# Altium footprint library ABC.PcbLib: 20 footprints (part 1 of 2)
Each footprint in its own frame and in the unit in brackets; x right, y up, seen from the top. Pads: shape width x height; smd on the part's side, far side on the other; paste and mask are expansions set on the pad; w line width, h text height; cw(c..) or ccw(c..) is an arc to the next point about the centre after c.
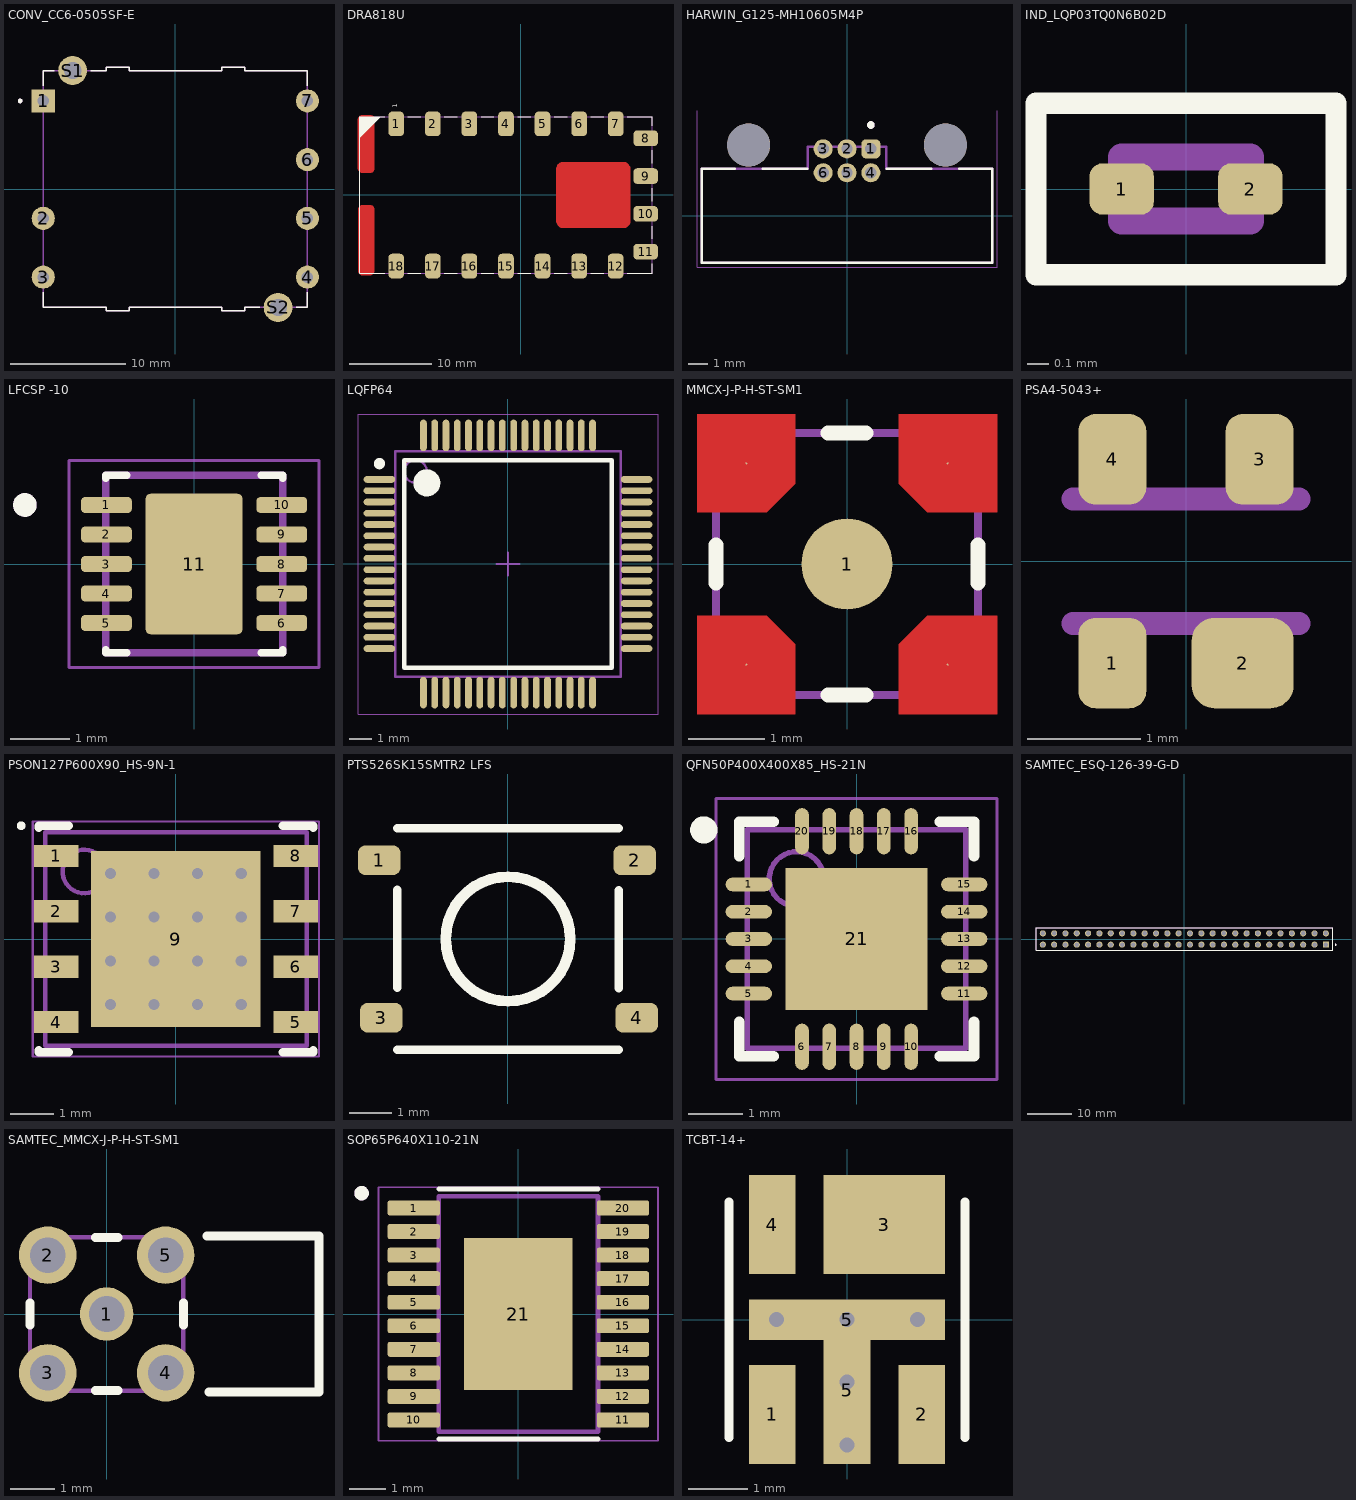
[diagram p0: the footprints below, top view; thin cyan lines are the x and y axes]

## CONV_CC6-0505SF-E [mm]
height 8.5
pads (9):
  rect 2x2 hole 1: 1(-11.43,7.62)
  round 2 hole 1: 2(-11.43,-2.54) 3(-11.43,-7.62) 4(11.43,-7.62) 5(11.43,-2.54) 6(11.43,2.54) 7(11.43,7.62)
  round 2.5 hole 1.5: S1(-8.89,10.25) S2(8.89,-10.25)
Top Overlay:
  circle w0.2: c-13.43,7.62 r0.1
  lines w0.127: -11.43,-8.94 -11.43,-10.25 -6,-10.25 -6,-10.55 -4,-10.55 -4,-10.25 4,-10.25 4,-10.55 6,-10.55 6,-10.25 7.32,-10.25 ; -11.43,8.94 -11.43,10.25 -10.46,10.25 ; -7.32,10.25 -6,10.25 -6,10.55 -4,10.55 -4,10.25 4,10.25 4,10.55 6,10.55 6,10.25 11.43,10.25 11.43,8.94 ; 10.46,-10.25 11.43,-10.25 11.43,-8.94
Top 3D Body:
  circle w0.2: c-13.43,7.62 r0.1
  lines w0.127: -11.43,-10.25 -11.43,10.25 -6,10.25 -6,10.55 -4,10.55 -4,10.25 4,10.25 4,10.55 6,10.55 6,10.25 11.43,10.25 11.43,-10.25 6,-10.25 6,-10.55 4,-10.55 4,-10.25 -4,-10.25 -4,-10.55 -6,-10.55 -6,-10.25 -11.43,-10.25
3D body "CC6-1205SF-E.STEP": height 8.7, standoff -3.3, extent -11.58,-10.55 11.58,10.55

## DRA818U [mm]
height 0.71
pads (18):
  rrect50% 1.9x3 smd: 1(-15.175,8.65) 2(-10.725,8.65) 3(-6.275,8.65) 4(-1.825,8.65) 5(2.625,8.65) 6(7.075,8.65) 7(11.525,8.65) 12(11.525,-8.65) 13(7.075,-8.65) 14(2.625,-8.65) 15(-1.825,-8.65) 16(-6.275,-8.65) 17(-10.725,-8.65) 18(-15.175,-8.65)
  rrect50% 3x1.9 smd: 8(15.175,6.9) 9(15.175,2.3) 10(15.175,-2.3) 11(15.175,-6.9)
Top Layer:
  pour cut-out: -19.367,9.698 -18.32,9.698 -18.221,9.698 -18.039,9.623 -17.9,9.484 -17.825,9.302 -17.825,9.204 -17.825,3.206 -17.825,3.105 -17.902,2.919 -18.044,2.777 -18.23,2.7 -18.331,2.7 -19.326,2.7 -19.425,2.7 -19.609,2.776 -19.749,2.916 -19.825,3.1 -19.825,3.199 -19.825,9.2 -19.825,9.3 -19.749,9.483 -19.608,9.624 -19.425,9.7 -19.325,9.7
  pour cut-out: -18.868,-1.25 -18.334,-1.25 -18.233,-1.25 -18.046,-1.327 -17.902,-1.471 -17.825,-1.658 -17.825,-1.759 -17.825,-9.248 -17.825,-9.348 -17.901,-9.533 -18.042,-9.674 -18.227,-9.75 -18.327,-9.75 -19.328,-9.75 -19.427,-9.75 -19.609,-9.674 -19.749,-9.534 -19.825,-9.352 -19.825,-9.253 -19.825,-1.748 -19.825,-1.649 -19.749,-1.466 -19.609,-1.326 -19.426,-1.25 -19.327,-1.25
  pour cut-out: 12.487,4 12.567,4 12.724,3.969 12.872,3.907 13.005,3.818 13.118,3.705 13.207,3.572 13.269,3.424 13.3,3.267 13.3,3.187 13.3,-3.197 13.3,-3.276 13.269,-3.431 13.209,-3.578 13.121,-3.709 13.009,-3.821 12.878,-3.909 12.731,-3.969 12.576,-4 12.497,-4 5.098,-4 5.02,-4 4.865,-3.969 4.72,-3.909 4.589,-3.822 4.478,-3.711 4.391,-3.58 4.331,-3.435 4.3,-3.28 4.3,-3.202 4.3,3.189 4.3,3.269 4.331,3.426 4.392,3.573 4.481,3.706 4.594,3.819 4.727,3.908 4.874,3.969 5.031,4 5.111,4
Top Overlay:
  region: -19.625,9.5 -19.625,7 -19.625,6.992 -19.619,6.977 -19.608,6.966 -19.593,6.96 -19.585,6.96 -17.045,9.5
  lines w0.15: -16.593,-9.5 -19.625,-9.5 -19.625,9.5 -16.593,9.5 ; -13.757,-9.5 -12.186,-9.5 ; -13.757,9.5 -12.186,9.5 ; -9.307,-9.5 -7.736,-9.5 ; -9.307,9.5 -7.736,9.5 ; -4.857,-9.5 -3.286,-9.5 ; -4.857,9.5 -3.286,9.5 ; -0.407,-9.5 1.164,-9.5 ; -0.407,9.5 1.164,9.5 ; 4.043,-9.5 5.614,-9.5 ; 4.043,9.5 5.614,9.5 ; 8.493,-9.5 10.064,-9.5 ; 8.493,9.5 10.064,9.5 ; 12.913,9.5 15.975,9.5 15.975,8.45 ; 12.943,-9.5 15.975,-9.5 15.975,-8.34 ; 15.975,-5.35 15.975,-3.779 ; 15.975,-0.75 15.975,0.821 ; 15.975,3.85 15.975,5.421
  text "1" at -14.825,10.6 h1
Top 3D Body:
  lines w0.15: -19.625,-9.5 15.975,-9.5 15.975,9.5 -19.625,9.5

## HARWIN_G125-MH10605M4P [mm]
height 5.25
pads (8):
  rrect50% 1x1 hole 0.6: 1(1.25,3.5)
  round 1 hole 0.6: 2(0,3.5) 3(-1.25,3.5) 4(1.25,2.25) 5(0,2.25) 6(-1.25,2.25)
  round 2.25 hole 2.25 unplated: ""(-5.15,3.7) ""(5.15,3.7)
Top Overlay:
  circle w0.2: c1.25,4.75 r0.1
  lines w0.127: -5.88,2.45 -7.6,2.45 -7.6,-2.45 7.6,-2.45 7.6,2.45 5.88,2.45 ; -4.42,2.45 -2.07,2.45 ; 2.07,2.45 4.42,2.45
Top 3D Body:
  circle w0.2: c1.25,4.75 r0.1
  lines w0.127: -7.6,-2.45 -7.6,2.45 -2.05,2.45 -2.05,3.6 2.05,3.6 2.05,2.45 7.6,2.45 7.6,-2.45 -7.6,-2.45
Mechanical 15:
  lines w0.05: -7.85,5.5 -7.85,-2.7 7.85,-2.7 7.85,5.5
3D body "step_temp.STEP": height 5.25, standoff -3.3, extent -7.6,-2.45 7.6,5.25

## IND_LQP03TQ0N6B02D [mm]
height 0.32
pads (2):
  rrect50% 0.3x0.24 smd: 1(-0.3,0) 2(0.3,0)
Top Overlay:
  lines w0.1: -0.7,-0.4 -0.7,0.4 0.7,0.4 0.7,-0.4 -0.7,-0.4
Top 3D Body:
  lines w0.127: -0.3,-0.15 -0.3,0.15 0.3,0.15 0.3,-0.15 -0.3,-0.15
3D body "step_temp.STEP": height 0.32, standoff 0, extent -0.3,-0.15 0.3,0.15

## LFCSP -10 [mm]
pads (11):
  rrect50% 0.86x0.27 smd: 1(-1.485,1) 2(-1.485,0.5) 3(-1.485,0) 4(-1.485,-0.5) 5(-1.485,-1) 6(1.485,-1) 7(1.485,-0.5) 8(1.485,0) 9(1.485,0.5) 10(1.485,1)
  rrect10% 1.64x2.38 smd: 11(0,0)
Top Overlay:
  circle w0.2: c-2.865,1 r0.1
  lines w0.127: -1.5,-1.455 -1.5,-1.5 -1.14,-1.5 ; -1.5,1.455 -1.5,1.5 -1.14,1.5 ; 1.14,-1.5 1.5,-1.5 1.5,-1.455 ; 1.14,1.5 1.5,1.5 1.5,1.455
Top 3D Body:
  circle w0.2: c-2.865,1 r0.1
  lines w0.127: -1.5,-1.5 -1.5,1.5 1.5,1.5 1.5,-1.5 -1.5,-1.5
Mechanical 15:
  lines w0.05: -2.115,-1.75 -2.115,1.75 2.115,1.75 2.115,-1.75 -2.115,-1.75
3D body "step_temp.STEP": height 0.85, standoff 0, extent -1.5,-1.5 1.5,1.5

## LQFP64 [mm] "TSQFP, 64-Leads, Body 10.00x10.00mm, Pitch 0.50mm, IPC Medium Density"
height 1.6
pads (64):
  oval 1.4x0.3 smd: 1(-5.7,3.75) 2(-5.7,3.25) 3(-5.7,2.75) 4(-5.7,2.25) 5(-5.7,1.75) 6(-5.7,1.25) 7(-5.7,0.75) 8(-5.7,0.25) 9(-5.7,-0.25) 10(-5.7,-0.75) 11(-5.7,-1.25) 12(-5.7,-1.75) 13(-5.7,-2.25) 14(-5.7,-2.75) 15(-5.7,-3.25) 16(-5.7,-3.75) 33(5.7,-3.75) 34(5.7,-3.25) 35(5.7,-2.75) 36(5.7,-2.25) 37(5.7,-1.75) 38(5.7,-1.25) 39(5.7,-0.75) 40(5.7,-0.25) 41(5.7,0.25) 42(5.7,0.75) 43(5.7,1.25) 44(5.7,1.75) 45(5.7,2.25) 46(5.7,2.75) 47(5.7,3.25) 48(5.7,3.75)
  oval 0.3x1.4 smd: 17(-3.75,-5.7) 18(-3.25,-5.7) 19(-2.75,-5.7) 20(-2.25,-5.7) 21(-1.75,-5.7) 22(-1.25,-5.7) 23(-0.75,-5.7) 24(-0.25,-5.7) 25(0.25,-5.7) 26(0.75,-5.7) 27(1.25,-5.7) 28(1.75,-5.7) 29(2.25,-5.7) 30(2.75,-5.7) 31(3.25,-5.7) 32(3.75,-5.7) 49(3.75,5.7) 50(3.25,5.7) 51(2.75,5.7) 52(2.25,5.7) 53(1.75,5.7) 54(1.25,5.7) 55(0.75,5.7) 56(0.25,5.7) 57(-0.25,5.7) 58(-0.75,5.7) 59(-1.25,5.7) 60(-1.75,5.7) 61(-2.25,5.7) 62(-2.75,5.7) 63(-3.25,5.7) 64(-3.75,5.7)
Top Overlay:
  circle w0.25: c-5.7,4.45 r0.125
  circle w0.6: c-3.6,3.6 r0.3
  lines w0.2: -4.6,-4.6 -4.6,4.6 4.6,4.6 4.6,-4.6 -4.6,-4.6
Top Courtyard:
  lines w0.05: -6.65,-6.65 -6.65,6.65 6.65,6.65 6.65,-6.65 -6.65,-6.65
  lines w0.1: -0.5,0 0.5,0 ; 0,-0.5 0,0.5
Top 3D Body:
  circle w0.1: c-4.1,4.1 r0.5
  lines w0.1: -5,-5 -5,5 5,5 5,-5 -5,-5
3D body "TSQFP50P1200X1200X160-64N.step": height 1.6, standoff 0, extent -6,-6 6,6

## MMCX-J-P-H-ST-SM1 [mm]
pads (5):
  round 1.2 smd: 1(0,0)
  round 0.025 smd: S1(-1.325,-1.325) S1(-1.325,1.325) S1(1.325,-1.325) S1(1.325,1.325)
Top Layer:
  region: -1.975,1.975 -0.68,1.975 -0.68,1.055 -1.055,0.68 -1.975,0.68
  region: 1.975,1.975 0.68,1.975 0.68,1.055 1.055,0.68 1.975,0.68
  region: 1.975,-1.975 0.68,-1.975 0.68,-1.055 1.055,-0.68 1.975,-0.68
  region: -1.975,-1.975 -0.68,-1.975 -0.68,-1.055 -1.055,-0.68 -1.975,-0.68
Top Overlay:
  lines w0.2: -1.725,-0.25 -1.725,0.25 ; -0.25,-1.725 0.25,-1.725 ; -0.25,1.725 0.25,1.725 ; 1.725,-0.25 1.725,0.25
Top 3D Body:
  lines w0.1: -1.725,-1.725 1.725,-1.725 1.725,1.725 -1.725,1.725 -1.725,-1.725
3D body "MMCX-J-P-H-ST-SM1.stp": height 5, standoff 0, extent -1.725,-1.75 1.725,1.75

## PCBComponent_1 [mm]

## PSA4-5043+ [mm]
pads (4):
  rrect50% 0.6x0.8 smd: 1(-0.65,-0.9) 3(0.65,0.9) 4(-0.65,0.9)
  rrect50% 0.9x0.8 smd: 2(0.5,-0.9)
Top 3D Body:
  region: 0.85,-1.101 0.15,-1.101 0.15,-0.6 0.85,-0.6
  region: -0.45,-1.101 -0.851,-1.101 -0.851,-0.6 -0.45,-0.6
  region: -0.45,0.601 -0.851,0.601 -0.851,1.1 -0.45,1.1
  region: 0.85,0.601 0.451,0.601 0.451,1.1 0.85,1.1
  lines w0.203: -1,-0.55 1,-0.55 ; -1,0.55 1,0.55
3D body "step_temp.STEP": height 1.1, standoff 0, extent -1.025,-1.05 1.025,1.05

## PSON127P600X90_HS-9N-1 [mm] "PSON, 8-Leads, Body 4.90x6.00mm, Pitch 1.27mm, Thermal Pad 4.05x3.89mm, IPC Medium Density"
height 0.9
pads (9):
  rect 1.02x0.51 smd: 1(-2.75,1.905) 2(-2.75,0.635) 3(-2.75,-0.635) 4(-2.75,-1.905) 5(2.75,-1.905) 6(2.75,-0.635) 7(2.75,0.635) 8(2.75,1.905)
  rect 3.89x4.05 smd paste-1.945: 9(0,0)
via 1.5,-1.5 diameter 0.508 hole 0.254
via 0.5,-1.5 diameter 0.508 hole 0.254
via -0.5,-1.5 diameter 0.508 hole 0.254
via -1.5,-1.5 diameter 0.508 hole 0.254
via 1.5,-0.5 diameter 0.508 hole 0.254
via 0.5,-0.5 diameter 0.508 hole 0.254
via -0.5,-0.5 diameter 0.508 hole 0.254
via -1.5,-0.5 diameter 0.508 hole 0.254
via 1.5,0.5 diameter 0.508 hole 0.254
via 0.5,0.5 diameter 0.508 hole 0.254
via -0.5,0.5 diameter 0.508 hole 0.254
via -1.5,0.5 diameter 0.508 hole 0.254
via 1.5,1.5 diameter 0.508 hole 0.254
via 0.5,1.5 diameter 0.508 hole 0.254
via -0.5,1.5 diameter 0.508 hole 0.254
via -1.5,1.5 diameter 0.508 hole 0.254
Top Overlay:
  circle w0.1: c-3.55,2.6 r0.05
  lines w0.2: -3.15,-2.56 -3.15,-2.6 -2.46,-2.6 ; -3.15,2.56 -3.15,2.6 -2.46,2.6 ; 2.46,-2.6 3.15,-2.6 3.15,-2.56 ; 2.46,2.6 3.15,2.6 3.15,2.56
Top Paste:
  rectangle: 0.75,-1.925 1.85,-0.775
  rectangle: 0.75,-0.575 1.85,0.575
  rectangle: 0.75,0.775 1.85,1.925
  rectangle: -0.55,-1.925 0.55,-0.775
  rectangle: -0.55,-0.575 0.55,0.575
  rectangle: -0.55,0.775 0.55,1.925
  rectangle: -1.85,-1.925 -0.75,-0.775
  rectangle: -1.85,-0.575 -0.75,0.575
  rectangle: -1.85,0.775 -0.75,1.925
Top Courtyard:
  lines w0.05: -3.285,-2.7 3.285,-2.7 3.285,2.7 -3.285,2.7 -3.285,-2.7
  lines w0.1: -0.5,0 0.5,0 ; 0,-0.5 0,0.5
Top 3D Body:
  circle w0.1: c-2.1,1.55 r0.5
  lines w0.1: -3,-2.45 3,-2.45 3,2.45 -3,2.45 -3,-2.45
3D body: height 0.9, standoff 0, extent -3,-2.45 3,2.45

## PTS526SK15SMTR2 LFS [mm]
pads (4):
  rrect50% 1x0.7 smd: 1(-3.025,1.85) 2(2.975,1.85) 3(-2.975,-1.85) 4(3.025,-1.85)
Top Overlay:
  circle w0.254: c0,0 r1.463
  lines w0.2: -2.6,-2.6 2.6,-2.6 ; -2.6,-1.151 -2.6,1.158 ; -2.6,2.6 2.6,2.6 ; 2.6,-1.158 2.6,1.151

## QFN50P400X400X85_HS-21N [mm] "QFN, 20-Leads, Body 4.00x4.00mm, Pitch 0.50mm, Thermal Pad 2.60x2.60mm, IPC Medium Density"
height 0.85
pads (21):
  oval 0.85x0.25 smd: 1(-1.975,1) 2(-1.975,0.5) 3(-1.975,0) 4(-1.975,-0.5) 5(-1.975,-1) 11(1.975,-1) 12(1.975,-0.5) 13(1.975,0) 14(1.975,0.5) 15(1.975,1)
  oval 0.25x0.85 smd: 6(-1,-1.975) 7(-0.5,-1.975) 8(0,-1.975) 9(0.5,-1.975) 10(1,-1.975) 16(1,1.975) 17(0.5,1.975) 18(0,1.975) 19(-0.5,1.975) 20(-1,1.975)
  rect 2.6x2.6 smd: 21(0,0)
Top Overlay:
  circle w0.25: c-2.8,2 r0.125
  lines w0.2: -2.15,-1.525 -2.15,-2.15 -1.525,-2.15 ; -2.15,1.525 -2.15,2.15 -1.525,2.15 ; 1.525,-2.15 2.15,-2.15 2.15,-1.525 ; 1.525,2.15 2.15,2.15 2.15,1.525
Top Courtyard:
  lines w0.05: -2.575,-2.575 2.575,-2.575 2.575,2.575 -2.575,2.575 -2.575,-2.575
  lines w0.1: -0.5,0 0.5,0 ; 0,-0.5 0,0.5
Top 3D Body:
  circle w0.1: c-1.1,1.1 r0.5
  lines w0.1: -2,-2 2,-2 2,2 -2,2 -2,-2
3D body "QFN50P400X400X85_HS-21N.step": height 0.85, standoff 0, extent -2.02,-2.02 2.02,2.02

## SAMTEC_ESQ-126-39-G-D [mm]
pads (52):
  rect 1.37x1.37 hole 1.02: 01(31.75,-1.27)
  round 1.37 hole 1.02: 02(31.75,1.27) 03(29.21,-1.27) 04(29.21,1.27) 05(26.67,-1.27) 06(26.67,1.27) 07(24.13,-1.27) 08(24.13,1.27) 09(21.59,-1.27) 10(21.59,1.27) 11(19.05,-1.27) 12(19.05,1.27) 13(16.51,-1.27) 14(16.51,1.27) 15(13.97,-1.27) 16(13.97,1.27) 17(11.43,-1.27) 18(11.43,1.27) 19(8.89,-1.27) 20(8.89,1.27) 21(6.35,-1.27) 22(6.35,1.27) 23(3.81,-1.27) 24(3.81,1.27) 25(1.27,-1.27) 26(1.27,1.27) 27(-1.27,-1.27) 28(-1.27,1.27) 29(-3.81,-1.27) 30(-3.81,1.27) 31(-6.35,-1.27) 32(-6.35,1.27) 33(-8.89,-1.27) 34(-8.89,1.27) 35(-11.43,-1.27) 36(-11.43,1.27) 37(-13.97,-1.27) 38(-13.97,1.27) 39(-16.51,-1.27) 40(-16.51,1.27) 41(-19.05,-1.27) 42(-19.05,1.27) 43(-21.59,-1.27) 44(-21.59,1.27) 45(-24.13,-1.27) 46(-24.13,1.27) 47(-26.67,-1.27) 48(-26.67,1.27) 49(-29.21,-1.27) 50(-29.21,1.27) 51(-31.75,-1.27) 52(-31.75,1.27)
Top Overlay:
  circle w0.2: c33.925,-1.27 r0.1
  lines w0.2: -33.275,-2.475 33.275,-2.475 33.275,2.475 -33.275,2.475 -33.275,-2.475
Top 3D Body:
  circle w0.2: c33.925,-1.27 r0.1
  lines w0.1: -33.275,-2.475 -33.275,2.475 ; -33.275,-2.475 33.275,-2.475 ; -33.275,-2.475 -33.275,2.475 ; -33.275,2.475 33.275,2.475 ; -33.275,2.475 33.275,2.475 ; 33.275,-2.475 33.275,2.475 ; 33.275,-2.475 33.275,2.475
3D body "ESQ-126-39-G-D.stp": height 11.11, standoff -12.13, extent -33.275,-2.605 33.273,2.475

## SAMTEC_MMCX-J-P-H-ST-SM1 [mm]
pads (5):
  round 1.2 hole 0.8: 1(0,0)
  round 1.295 hole 0.8: 2(-1.325,1.325) 3(-1.325,-1.325) 4(1.325,-1.325) 5(1.325,1.325)
Top Overlay:
  lines w0.2: -1.725,-0.25 -1.725,0.25 ; -0.25,-1.725 0.25,-1.725 ; -0.25,1.725 0.25,1.725 ; 1.725,-0.25 1.725,0.25 ; 2.25,1.75 4.775,1.75 4.775,-1.75 2.3,-1.75
Top 3D Body:
  lines w0.1: -1.725,-1.725 1.725,-1.725 1.725,1.725 -1.725,1.725 -1.725,-1.725
3D body "Download_STEP_66011002111501+%28rev1%29.stp": height 3.9, standoff -2.4, extent -1.75,-1.75 4.75,1.75

## SOP65P640X110-21N [mm]
pads (21):
  rrect25% 1.44x0.41 smd: 1(-2.885,2.925) 2(-2.885,2.275) 3(-2.885,1.625) 4(-2.885,0.975) 5(-2.885,0.325) 6(-2.885,-0.325) 7(-2.885,-0.975) 8(-2.885,-1.625) 9(-2.885,-2.275) 10(-2.885,-2.925) 11(2.885,-2.925) 12(2.885,-2.275) 13(2.885,-1.625) 14(2.885,-0.975) 15(2.885,-0.325) 16(2.885,0.325) 17(2.885,0.975) 18(2.885,1.625) 19(2.885,2.275) 20(2.885,2.925)
  rect 3x4.2 smd: 21(0,0)
Top Overlay:
  circle w0.2: c-4.325,3.335 r0.1
  lines w0.127: -2.2,-3.45 2.2,-3.45 ; -2.2,3.45 2.2,3.45
Top 3D Body:
  circle w0.2: c-4.325,3.335 r0.1
  lines w0.127: -2.2,-3.25 2.2,-3.25 2.2,3.25 -2.2,3.25 -2.2,-3.25
Mechanical 15:
  lines w0.05: -3.855,-3.5 3.855,-3.5 3.855,3.5 -3.855,3.5 -3.855,-3.5
3D body "step_temp.STEP": height 1.1, standoff 0, extent -3.2,-3.25 3.2,3.25

## TCBT-14+ [mm]
height 4.064
pads (6):
  rect 0.79x1.68 smd: 1(-1.27,-1.61) 2(1.27,-1.61) 4(-1.27,1.61)
  rect 2.06x1.68 smd: 3(0.635,1.61)
  rect 0.79x2.5 smd: 5(0,-1.2)
  rect 3.33x0.69 smd: 5(0,0)
via 0,0 diameter 0.508 hole 0.254
via 0,-1.062 diameter 0.508 hole 0.254
via 1.2,0 diameter 0.508 hole 0.254
via -1.2,0 diameter 0.508 hole 0.254
via 0,-2.125 diameter 0.508 hole 0.254
Top Overlay:
  lines w0.15: -2,-2 -2,2 ; 2,-2 2,2